# EAGLE library part XMEGA32E5 (library U-AVR)
ATxmega32E5 32 Kbytes FLASH 4 Kbytes SRAM 1 Kbytes EEPROM 2 UART 16-channel 12 bit ADC
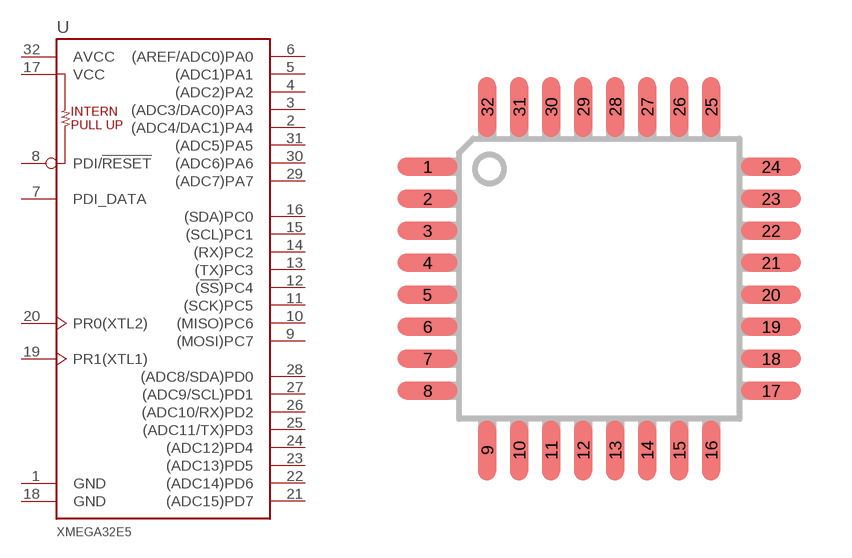
[diagram p5: symbol with the pads of TQFP32-08; footprint TQFP32-08]

Designator prefix U

## XMEGA32E5-AU  [TQFP32-08]
1  GND  pwr
2  (ADC4/DAC1)PA4
3  (ADC3/DAC0)PA3
4  (ADC2)PA2
5  (ADC1)PA1
6  (AREF/ADC0)PA0
7  PDI_DATA
8  PDI/!RESET  in
9  (MOSI)PC7
10  (MISO)PC6
11  (SCK)PC5
12  (!SS!)PC4
13  (TX)PC3
14  (RX)PC2
15  (SCL)PC1
16  (SDA)PC0
17  VCC  pwr
18  GND  pwr
19  PR1(XTL1)  in
20  PR0(XTL2)  out
21  (ADC15)PD7
22  (ADC14)PD6
23  (ADC13)PD5
24  (ADC12)PD4
25  (ADC11/TX)PD3
26  (ADC10/RX)PD2
27  (ADC9/SCL)PD1
28  (ADC8/SDA)PD0
29  (ADC7)PA7
30  (ADC6)PA6
31  (ADC5)PA5
32  AVCC  pas

## Footprint TQFP32-08 (pad centres in mm)
Thin Plasic Quad Flat Package Grid 0.8 mm
smd 1.5 x 0.45: 1 -4.293,2.8; 2 -4.293,2; 3 -4.293,1.2; 4 -4.293,0.4; 5 -4.293,-0.4; 6 -4.293,-1.2; 7 -4.293,-2; 8 -4.293,-2.8; 17 4.293,-2.8; 18 4.293,-2; 19 4.293,-1.2; 20 4.293,-0.4; 21 4.293,0.4; 22 4.293,1.2; 23 4.293,2; 24 4.293,2.8
smd 0.45 x 1.5: 9 -2.8,-4.293; 10 -2,-4.293; 11 -1.2,-4.293; 12 -0.4,-4.293; 13 0.4,-4.293; 14 1.2,-4.293; 15 2,-4.293; 16 2.8,-4.293; 25 2.8,4.293; 26 2,4.293; 27 1.2,4.293; 28 0.4,4.293; 29 -0.4,4.293; 30 -1.2,4.293; 31 -2,4.293; 32 -2.8,4.293